# Altium schematic symbol library Diode_TVS_Dual_Bi.Schlib: 1 symbol
Pins are listed as number, name and electrical type; pins without a type are passive.

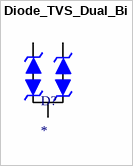
[diagram p0: symbol Diode_TVS_Dual_Bi]

## Diode_TVS_Dual_Bi
designator D?
Dual Bidirectional TVS diode
pins: C1, C2, CC